# Altium schematic symbol library TCAN3403DDFRQ1.SchLib: 1 symbol
Pins are listed as number, name and electrical type; pins without a type are passive.

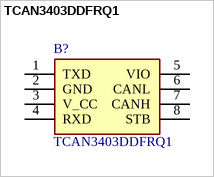
[diagram p0: symbol TCAN3403DDFRQ1]

## TCAN3403DDFRQ1
designator B?
CAN Interface IC Automotive 3.3V CAN flexible-data-rate (FD) transceiver with flexible I/O and standby mode 8-SOT-23-THIN -40 to 150; Manufacturer_Name: Texas Instruments; Geometry.Height: 1.1mm; Mouser Part Number: 595-TCAN3403DDFRQ1; Mouser Price/Stock: https://www.mouser.co.uk/ProductDetail/Texas-Instruments/TCAN3403DDFRQ1?qs=VVKQmw408U%2FxEANrQHmLxg%3D%3D; Manufacturer_Part_Number: TCAN3403DDFRQ1; Datasheet Link: https://www.ti.com/lit/ds/symlink/tcan3403-q1.pdf?ts=1727053527790&ref_url=https%253A%252F%252Fwww.mouser.cn%252F
footprint SOT65P280X110-8N
pins: 1 TXD, 2 GND, 3 V_CC, 4 RXD, 5 VIO, 6 CANL, 7 CANH, 8 STB